# EAGLE library part MASTR_2 (library PI-REPEATER-M2SC REV 01)
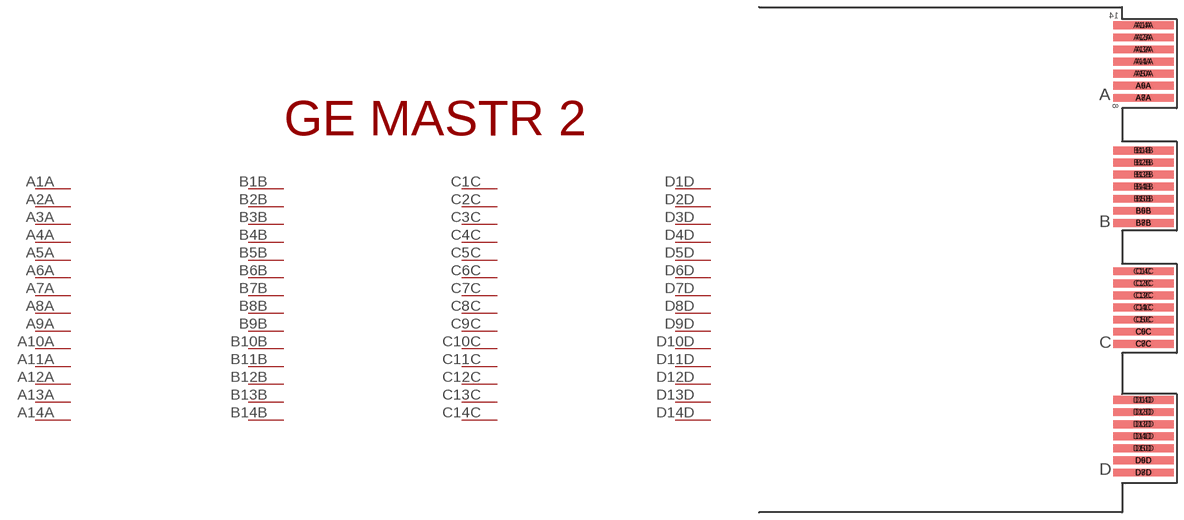
[diagram p0: symbol with the pads of MASTR2_CARD; footprint MASTR2_CARD]

Designator prefix -

## MASTR_2  [MASTR2_CARD]
A1A  A1
A2A  A2
A3A  A3
A4A  A4
A5A  A5
A6A  A6
A7A  A7
A8A  A8
A9A  A9
A10A  A10
A11A  A11
A12A  A12
A13A  A13
A14A  A14
B1B  B1
B2B  B2
B3B  B3
B4B  B4
B5B  B5
B6B  B6
B7B  B7
B8B  B8
B9B  B9
B10B  B10
B11B  B11
B12B  B12
B13B  B13
B14B  B14
C1C  C1
C2C  C2
C3C  C3
C4C  C4
C5C  C5
C6C  C6
C7C  C7
C8C  C8
C9C  C9
C10C  C10
C11C  C11
C12C  C12
C13C  C13
C14C  C14
D1D  D1
D2D  D2
D3D  D3
D4D  D4
D5D  D5
D6D  D6
D7D  D7
D8D  D8
D9D  D9
D10D  D10
D11D  D11
D12D  D12
D13D  D13
D14D  D14

## Footprint MASTR2_CARD (pad centres in mm)
smd 12.7 x 1.651 bottom: A1A 80.411,102.093; A2A 80.411,99.553; A3A 80.411,97.013; A4A 80.411,94.473; A5A 80.411,91.933; A6A 80.411,89.393; A7A 80.411,86.853; B1B 80.411,75.804; B2B 80.411,73.264; B3B 80.411,70.724; B4B 80.411,68.184; B5B 80.411,65.644; B6B 80.411,63.104; B7B 80.411,60.564; C1C 80.411,50.404; C2C 80.411,47.864; C3C 80.411,45.324; C4C 80.411,42.784; C5C 80.411,40.244; C6C 80.411,37.704; C7C 80.411,35.164; D1D 80.411,23.353; D2D 80.411,20.813; D3D 80.411,18.273; D4D 80.411,15.733; D5D 80.411,13.193; D6D 80.411,10.653; D7D 80.411,8.113
smd 12.7 x 1.651: A8A 80.411,86.853; A9A 80.411,89.393; A10A 80.411,91.933; A11A 80.411,94.473; A12A 80.411,97.013; A13A 80.411,99.553; A14A 80.411,102.093; B8B 80.411,60.564; B9B 80.411,63.104; B10B 80.411,65.644; B11B 80.411,68.184; B12B 80.411,70.724; B13B 80.411,73.264; B14B 80.411,75.804; C8C 80.411,35.164; C9C 80.411,37.704; C10C 80.411,40.244; C11C 80.411,42.784; C12C 80.411,45.324; C13C 80.411,47.864; C14C 80.411,50.404; D8D 80.411,8.113; D9D 80.411,10.653; D10D 80.411,13.193; D11D 80.411,15.733; D12D 80.411,18.273; D13D 80.411,20.813; D14D 80.411,23.353